# Altium schematic symbol library SN74ABT125D.SchLib: 1 symbol
Pins are listed as number, name and electrical type; pins without a type are passive.

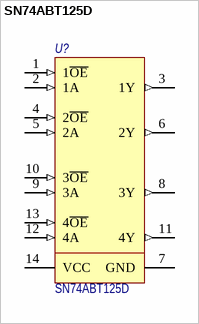
[diagram p0: symbol SN74ABT125D]

## SN74ABT125D
designator U?
QUADRUPLE BUS BUFFER GATES; Потребление, Вт: 0.15; Назначение: QUADRUPLE BUS BUFFER GATES; ComponentLink1Description: DataSheet; ComponentLink1URL: https://www.ti.com/lit/ds/scbs182i/scbs182i.pdf; Наименование: SN74ABT125D
footprint SOIC-14
pins: 1 1~{OE} (in), 2 1A (in), 3 1Y (out), 4 2~{OE} (in), 5 2A (in), 6 2Y (out), 7 GND (power), 8 3Y (out), 9 3A (in), 10 3~{OE} (in), 11 4Y (out), 12 4A (in), 13 4~{OE} (in), 14 VCC (power)